# Altium schematic symbol library ISSI_memories.SchLib: 2 symbols
Pins are listed as number, name and electrical type; pins without a type are passive.

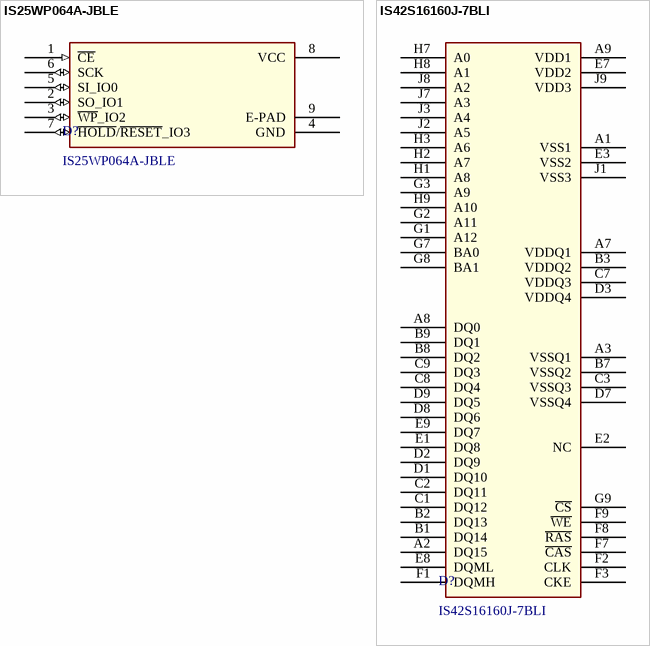
[diagram p0: symbols IS25WP064A-JBLE to IS42S16160J-7BLI]

## IS25WP064A-JBLE
designator D?
Serial Flash Memory with 133MHz Multi I/O SPI & Quad I/O QPI DTR Interface 1.8V -40 to 105°C 64Mb 8-pin SOP; Manufacturer: ISSI; Categories: Integrated Circuits (ICs); Memory Type: Non-Volatile; Memory Size: 64Mb (8M x 8); Write Cycle Time - Word, Page: 800µs; Memory Interface: SPI - Quad I/O, QPI, DTR; Voltage - Supply: 1.65 V ~ 1.95 V; Supplier 1: Digi-Key; Manufacturer Part Number: IS25WP064A-JBLE; Stock 1: 0; Pricing 1: 1=1.86, 10=1.693, 25=1.6468, 50=1.6384, 100=1.4645, 250=1.4602, 500=1.4382, 1000=1.3772, 5000=1.2822 (USD); Series: -; Packaging: Bulk; Part Status: Active; Memory Format: FLASH; Technology: FLASH - NOR; Clock Frequency: 133MHz; Operating Temperature: -40°C ~ 105°C (TA); Mounting Type: Surface Mount; Package / Case: 8-SOIC (0.209, 5.30mm Width); Supplier Device Package: 8-SOIC; ComponentLink1URL: http://www.farnell.com/datasheets/2625710.pdf?src-supplier=Farnell; ComponentLink1Description: http://www.farnell.com/datasheets/2625710.pdf?src-supplier=Farnell; ComponentLink2URL: http://www.issi.com/WW/pdf/IS25WP064A_032A.pdf?src-supplier=Digi-Key; ComponentLink2Description: http://www.issi.com/WW/pdf/IS25WP064A_032A.pdf?src-supplier=Digi-Key; Supplier Part Number 1: 706-1590-ND
pins: 1 ~{CE} (in), 2 SO_IO1 (io), 3 ~{WP}_IO2 (io), 4 GND (power), 5 SI_IO0 (io), 6 SCK (io), 7 ~{HOLD}/~{RESET}_IO3 (io), 8 VCC (power), 9 E-PAD (power)

## IS42S16160J-7BLI
designator D?
DRAM 256M, 3.3V, SDRAM, 16Mx16, 143Mhz, 54 ball BGA (8mmx8mm) RoHS, IT; Manufacturer: ISSI; Number of Bits per Word: 16 Bit; Maximum Operating Current: 90 mA; Number of Banks: 4; Density: 256 Mb; Maximum Random Access Time: 5.4 ns; Screening Level: Industrial; Max Processing Temp: 260; Lead Finish: Tin|Silver|Copper; Address Bus Width: 13 Bit; Supplier 1: Digi-Key; Manufacturer Part Number: IS42S16160J-7BLI; Stock 1: 2636; Pricing 1: 1=4.24, 10=3.844, 25=3.7608, 40=3.7403, 80=3.3536, 348=3.3415, 696=3.2194, 1044=3.0606, 5220=2.7228 (USD); Organization: 16M x 16; Mounting: Surface Mount; Number of I/O Lines: 16 Bit; Type: SDRAM; Data Bus Width: 16 Bit; Operating Supply Voltage: 3.3 V; Operating Temperature: -40 to 85 C; Maximum Clock Rate: 143 MHz; ComponentLink1URL: http://www.issi.com/WW/pdf/42-45S83200J-16160J.pdf?src-supplier=Digi-Key; ComponentLink1Description: http://www.issi.com/WW/pdf/42-45S83200J-16160J.pdf?src-supplier=Digi-Key; ComponentLink2URL: http://www.mouser.com/ds/2/198/42-45S83200J-16160J-462626.pdf?src-supplier=Mouser; ComponentLink2Description: http://www.mouser.com/ds/2/198/42-45S83200J-16160J-462626.pdf?src-supplier=Mouser; ComponentLink3URL: http://www.issi.com/WW/pdf/42-45S83200J-16160J.pdf?src-supplier=Avnet; ComponentLink3Description: http://www.issi.com/WW/pdf/42-45S83200J-16160J.pdf?src-supplier=Avnet; ComponentLink4URL: http://www.issi.com/WW/pdf/42-45S83200J-16160J.pdf?src-supplier=Avnet+Asia; ComponentLink4Description: http://www.issi.com/WW/pdf/42-45S83200J-16160J.pdf?src-supplier=Avnet+Asia; Supplier Part Number 1: 706-1362-ND
pins: A1 VSS1 (power), A2 DQ15, A3 VSSQ1 (power), A7 VDDQ1 (power), A8 DQ0, A9 VDD1 (power), B1 DQ14, B2 DQ13, B3 VDDQ2 (power), B7 VSSQ2 (power), B8 DQ2, B9 DQ1, C1 DQ12, C2 DQ11, C3 VSSQ3 (power), C7 VDDQ3 (power), C8 DQ4, C9 DQ3, D1 DQ10, D2 DQ9, D3 VDDQ4 (power), D7 VSSQ4 (power), D8 DQ6, D9 DQ5, E1 DQ8, E2 NC, E3 VSS2 (power), E7 VDD2 (power), E8 DQML, E9 DQ7, F1 DQMH, F2 CLK, F3 CKE, F7 ~{CAS}, F8 ~{RAS}, F9 ~{WE}, G1 A12, G2 A11, G3 A9, G7 BA0, G8 BA1, G9 ~{CS}, H1 A8, H2 A7, H3 A6, H7 A0, H8 A1, H9 A10, J1 VSS3 (power), J2 A5, J3 A4, J7 A3, J8 A2, J9 VDD3 (power)